# Altium footprint library TI MSOP-8 DGN.PCBLIB: 1 footprints
Each footprint in its own frame and in the unit in brackets; x right, y up, seen from the top. Pads: shape width x height; smd on the part's side, far side on the other; paste and mask are expansions set on the pad; w line width, h text height; cw(c..) or ccw(c..) is an arc to the next point about the centre after c.
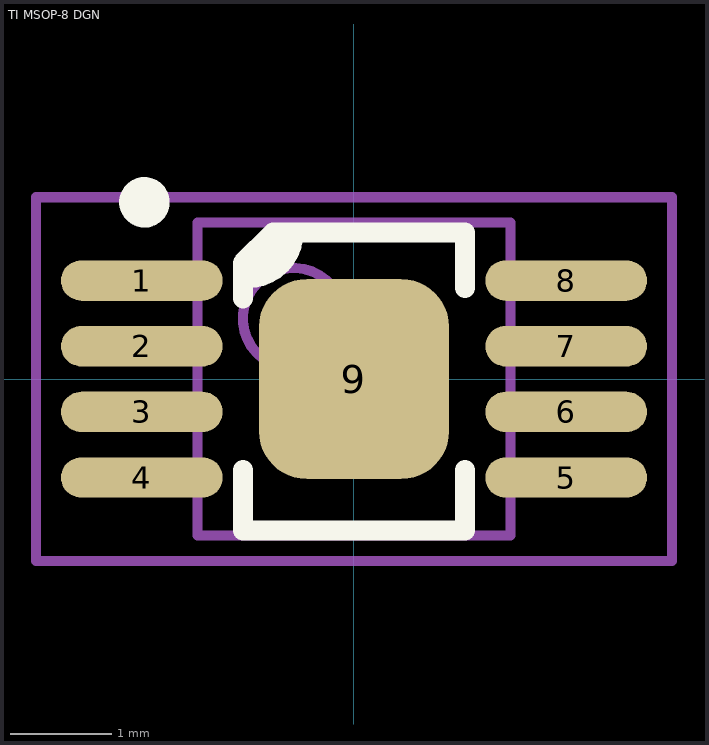
[diagram p0: the footprint, top view; thin cyan lines are the x and y axes]

## TI MSOP-8 DGN [mm] "MSOP, 8-Leads, Body 3.1x3.1mm (max), Pitch 0.65mm, IPC Medium Density"
height 1.1
pads (9):
  oval 1.6x0.4 smd: 1(-2.1,0.975) 2(-2.1,0.325) 3(-2.1,-0.325) 4(-2.1,-0.975) 5(2.1,-0.975) 6(2.1,-0.325) 7(2.1,0.325) 8(2.1,0.975)
  rrect50% 1.88x1.98 smd: 9(0,0)
Top Overlay:
  circle w0.25: c-2.075,1.75 r0.125
  region: -0.925,1.3 -0.775,1.45 -0.55,1.45 -0.55,1.3 -0.85,1 -1.05,1
  lines w0.2: -1.1,-0.9 -1.1,-1.5 1.1,-1.5 1.1,-0.9 ; -1.1,0.8 -1.1,1.15 -0.8,1.45 ; -1.05,1 ccw(c-1.05,1.45) -0.6,1.45 ; -0.775,1.45 0,1.45 1.1,1.45 1.1,0.9
Mechanical 13:
  circle w0.1: c-0.6,0.6 r0.5
  lines w0.1: -1.55,-1.55 -1.55,1.55 1.55,1.55 1.55,-1.55 -1.55,-1.55
Mechanical 15:
  lines w0.1: -0.5,0 0.5,0 ; 0,-0.5 0,0.5 ; -3.15,-1.8 -3.15,1.8 3.15,1.8 3.15,-1.8 -3.15,-1.8
3D body "MS8E Chip.STEP": height 1.1, standoff 0, extent -2.459,-1.5 2.46,1.5